# Altium footprint library PCB库.PcbLib: 44 footprints (part 1 of 3)
Each footprint in its own frame and in the unit in brackets; x right, y up, seen from the top. Pads: shape width x height; smd on the part's side, far side on the other; paste and mask are expansions set on the pad; w line width, h text height; cw(c..) or ccw(c..) is an arc to the next point about the centre after c.
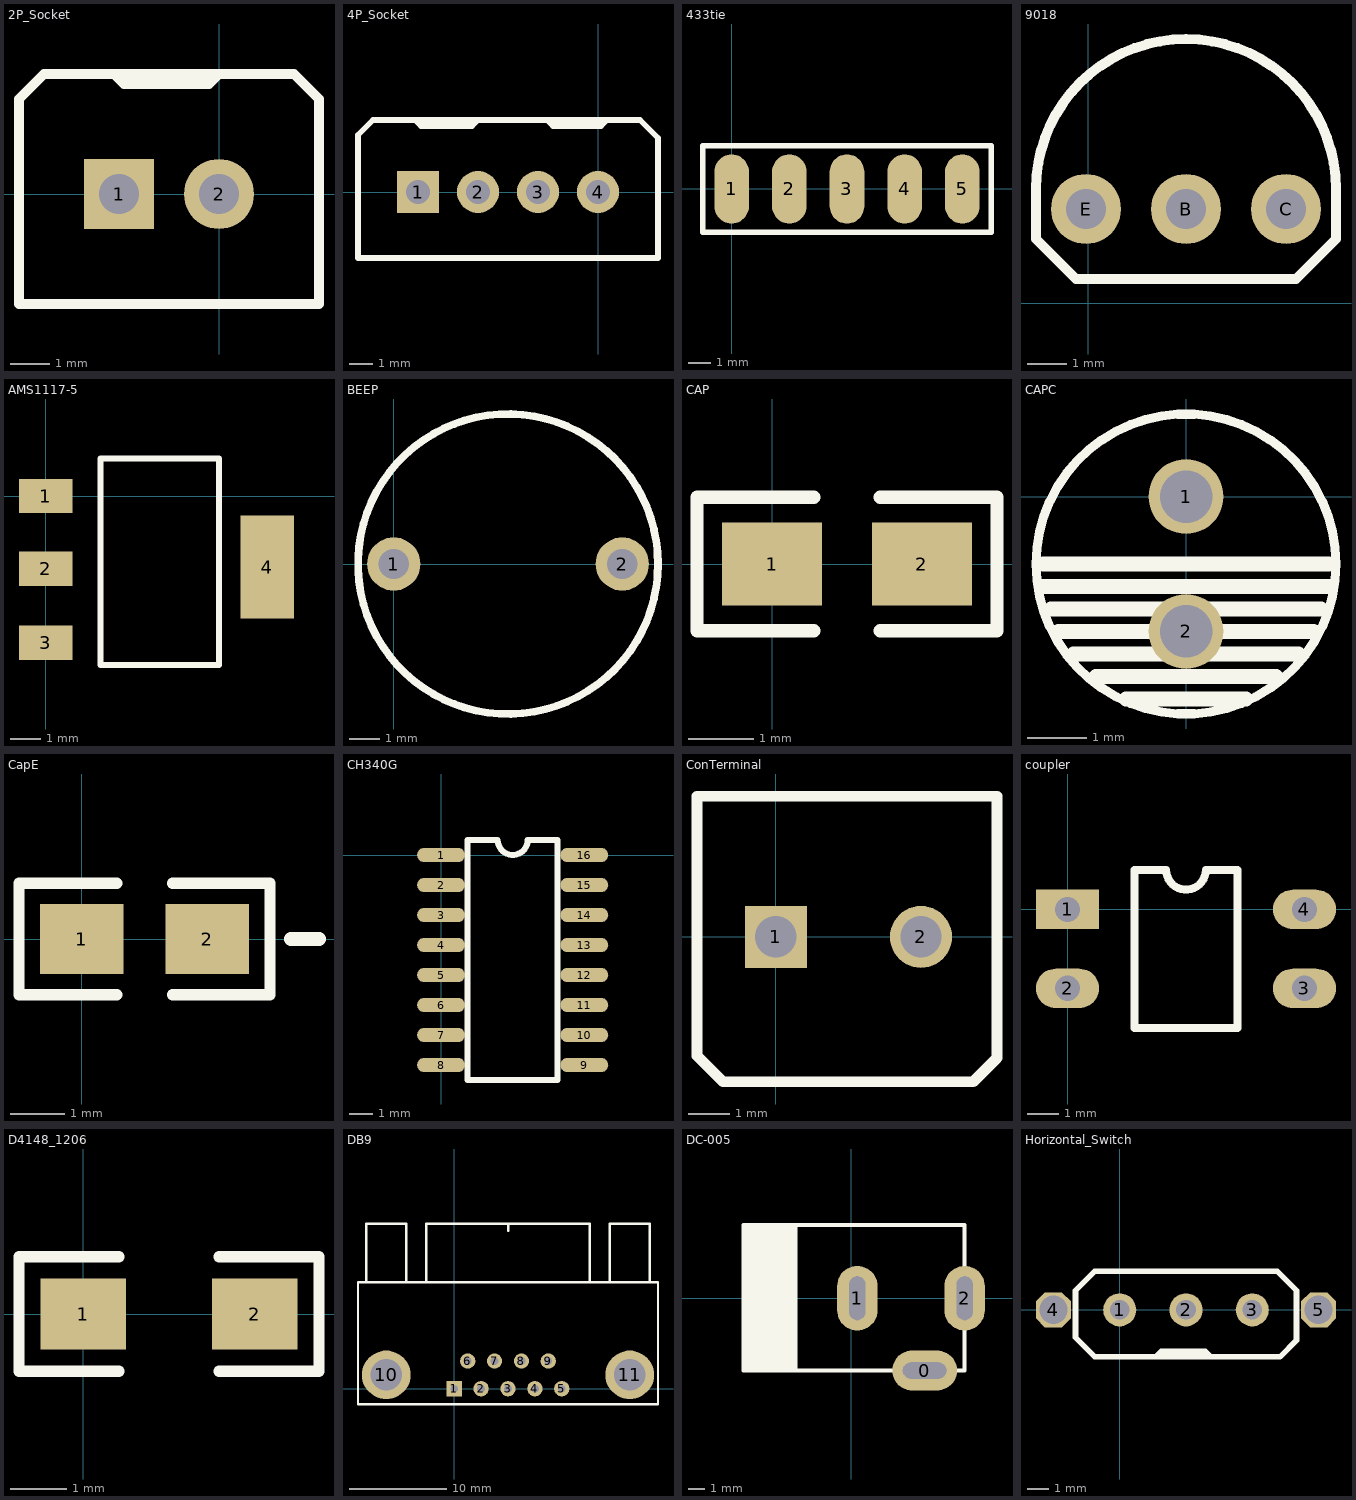
[diagram p0: the footprints below, top view; thin cyan lines are the x and y axes]

## 2P_Socket [mil]
pads (2):
  rect 70x70 hole 40: 1(-100,0)
  round 70 hole 40: 2(0,0)
Top Overlay:
  lines w10: -105,120 -95,110 -15,110 -10,110 0,120 ; -200,-110 100,-110 100,95 75,120 -175,120 -200,95 -200,-110

## 4P_Socket [mil]
pads (4):
  rect 70x70 hole 40: 1(-300,0)
  round 70 hole 40: 2(-200,0) 3(-100,0) 4(0,0)
Top Overlay:
  lines w10: -305,120 -295,110 -215,110 -210,110 -200,120 ; -90,120 -85,120 -75,110 5,110 15,120 ; -400,-110 100,-110 100,90 70,120 -375,120 -400,95 -400,-110

## 433tie [mil]
pads (5):
  oval 60x120 smd: 1(0,0) 2(100,0) 3(200,0) 4(300,0) 5(400,0)
Top Overlay:
  lines w10: -50,-75 -50,75 450,75 450,-75 -50,-75

## 9018 [mil]
pads (3):
  round 70 hole 40: B(98,94) C(198,94) E(-2,94)
Top Overlay:
  lines w10: -52,64 -12,24 208,24 248,64 248,114 ccw(c98,114) -52,114 -52,64

## AMS1117-5 [mil]
pads (4):
  rect 70x45 smd: 1(0,0) 2(0,-95.04) 3(0,-192)
  rect 70x135 smd: 4(290.35,-92.95)
Top Overlay:
  lines w8: 71.65,-221.02 226.65,-221.02 226.65,48.98 71.65,48.98 71.65,-221.02

## BEEP [mil]
pads (2):
  round 70 hole 40: 1(0,0) 2(300,0)
Top Overlay:
  circle w10: c150,0 r196.85

## CAP [mil]
pads (2):
  rect 60x50 smd: 1(0,0) 2(90,0)
Top Overlay:
  lines w8: 25,-40 -45,-40 -45,40 25,40 ; 65,-40 135,-40 135,40 65,40

## CAPC [mil]
pads (2):
  round 50 hole 35: 1(0,0) 2(0,-90)
Top Overlay:
  circle w6.06: c0,-45 r100
  lines w10: -95,-60 95,-60 ; -95,-45 95,-45 ; -90,-75 90,-75 ; -85,-90 85,-90 ; -75,-105 75,-105 ; -60,-120 60,-120 ; -40,-135 40,-135

## CapE [mil]
pads (2):
  rect 60x50 smd: 1(0,0) 2(90,0)
Top Overlay:
  lines w8: 25,-40 -45,-40 -45,40 25,40 ; 65,-40 135,-40 135,40 65,40
  lines w10: 150,0 170,0

## CH340G [mil] "CH340G"
pads (16):
  oval 80x24 smd: 1(0,0) 2(0,-50) 3(0,-100) 4(0,-150) 5(0,-200) 6(0,-250) 7(0,-300) 8(0,-350) 9(238.5,-350) 10(238.5,-300) 11(238.5,-250) 12(238.5,-200) 13(238.5,-150) 14(238.5,-100) 15(238.5,-50) 16(238.5,0)
Top Overlay:
  lines w10: 44.25,-375 194.25,-375 194.25,25 144.25,25 cw(c119.25,25) 94.25,25 44.25,25 44.25,-375

## ConTerminal [mm]
pads (2):
  rect 1.5x1.5 hole 1: 1(0,0)
  round 1.5 hole 1: 2(3.5,0)
Top Overlay:
  lines w0.254: -1.905,-2.865 -1.27,-3.5 4.755,-3.5 5.334,-2.921 5.334,3.4 -1.905,3.4 -1.905,-2.865

## coupler [mil]
pads (4):
  rect 80x50 hole 32: 1(0,0)
  oval 80x50 hole 32: 2(0,-100) 3(300,-100) 4(300,0)
Top Overlay:
  lines w10: 85,-150 215,-150 215,50 175,50 cw(c150,50) 125,50 85,50 85,-150

## D4148_1206 [mil]
pads (2):
  rect 60x50 smd: 1(0,0) 2(120,0)
Top Overlay:
  lines w8: 25,-40 -45,-40 -45,40 25,40 ; 95,-40 165,-40 165,40 95,40

## DB9 [mm]
pads (11):
  rect 1.575x1.575 hole 0.8: 1(0,0)
  round 1.575 hole 0.8: 2(2.76,0) 3(5.52,0) 4(8.28,0) 5(11.04,0) 6(1.38,2.84) 7(4.14,2.84) 8(6.9,2.84) 9(9.66,2.84)
  round 5 hole 3.25: 10(-6.98,1.42) 11(18.02,1.42)
Top Overlay:
  lines w0.254: -9.05,10.92 -9.05,16.92 -4.94,16.92 ; -4.91,10.92 -4.91,16.92 ; -2.85,10.92 -2.85,16.92 13.9,16.92 13.9,10.92 ; 5.525,16.2 5.525,16.9 ; 15.95,10.92 15.95,16.92 20.06,16.92 ; 20.09,10.92 20.09,16.92 ; -9.88,-1.58 20.92,-1.58 20.92,10.92 -9.88,10.92 -9.88,-1.58
3D body: height 12.81, standoff -2.91, extent -9.925,-2.012 20.885,17.063

## DC-005 [mm]
pads (3):
  oval 4x2.5 hole 1 slot 2.7 at 0 deg: 0(4.547,-4.47)
  oval 2.5x4 hole 1 slot 2.7 at 90 deg: 1(0.381,0) 2(7.018,0)
Top Overlay:
  region: -3.429,-4.47 -3.429,4.521 -6.647,4.521 -6.647,-4.47
  lines w0.254: -3.454,-4.47 -3.454,4.521 ; -6.647,-4.47 -6.647,0.025 -6.647,4.521 7.018,4.521 7.018,0 7.018,-4.47 -6.647,-4.47

## Horizontal_Switch [mil]
pads (5):
  round 60 hole 35.43: 1(0,0) 2(120,0) 3(240,0)
  oct 62.99x62.99 hole 51.18: 4(-120,0) 5(360,0)
Top Overlay:
  lines w10: 65,-85 75,-75 80,-75 155,-75 165,-85 ; -80,-50 -45,-85 38.75,-85 206.25,-85 290,-85 320,-55 320,35 285,70 -45,70 -55,60 -80,35 -80,-50